# Altium footprint library USB.PcbLib: 1 footprints
Each footprint in its own frame and in the unit in brackets; x right, y up, seen from the top. Pads: shape width x height; smd on the part's side, far side on the other; paste and mask are expansions set on the pad; w line width, h text height; cw(c..) or ccw(c..) is an arc to the next point about the centre after c.
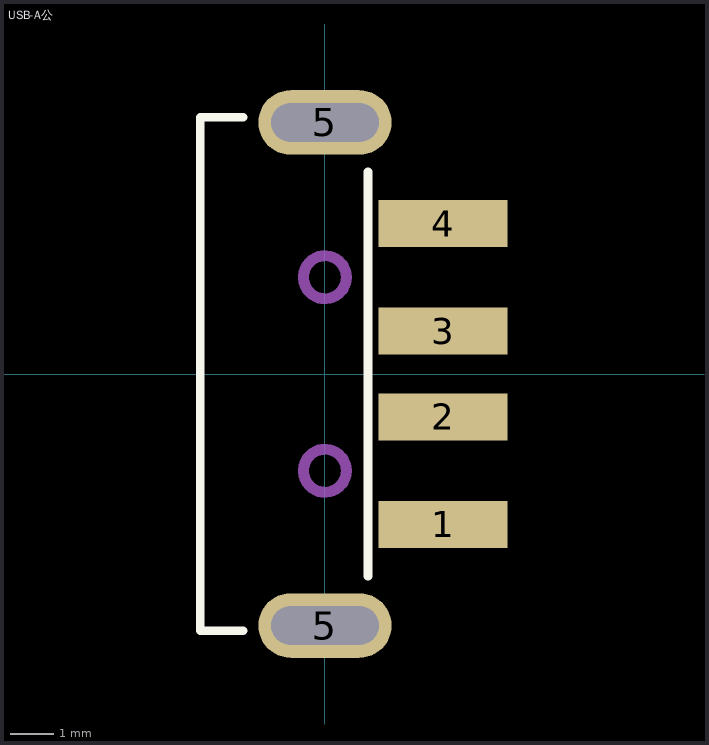
[diagram p0: the footprint, top view; thin cyan lines are the x and y axes]

## USB-A公 [mm]
pads (6):
  rect 3x1.1 smd: 1(2.75,-3.5) 2(2.75,-1) 3(2.75,1) 4(2.75,3.5)
  oval 3.1x1.5 hole 0.9 slot 2.5 at 0 deg: 5(0,-5.85) 5(0,5.85)
Top Overlay:
  lines w0.2: -1.905,-5.969 -2.9,-5.969 -2.9,5.969 -1.905,5.969 ; 1,-4.7 1,4.7
Mechanical 1:
  circle w0.254: c0,-2.25 r0.5
  circle w0.254: c0,2.25 r0.5
3D body "usba.stp": height 2.05, standoff -2.45, extent -17.7,-6 3.191,6